# EAGLE library part 632712000012 (library InputOutputIO (rev18b))
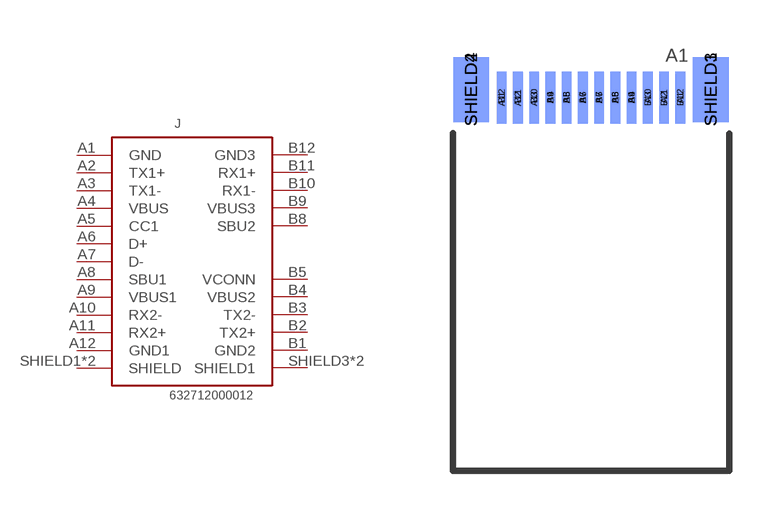
[diagram p187: symbol with the pads of 632712000012; footprint 632712000012]

Designator prefix J

## 632712000012  [632712000012]
A1  GND
A2  TX1+
A3  TX1-
A4  VBUS
A5  CC1
A6  D+
A7  D-
A8  SBU1
A9  VBUS1
A10  RX2-
A11  RX2+
A12  GND1
B1  GND2
B2  TX2+
B3  TX2-
B4  VBUS2
B5  VCONN
B8  SBU2
B9  VBUS3
B10  RX1-
B11  RX1+
B12  GND3
SHIELD1  SHIELD
SHIELD2  SHIELD
SHIELD3  SHIELD1
SHIELD4  SHIELD1

## Footprint 632712000012 (pad centres in mm)
smd 0.3 x 1.6: A1 2.75,0; A2 2.25,0; A3 1.75,0; A4 1.25,0; A5 0.75,0; A6 0.25,0; A7 -0.25,0; A8 -0.75,0; A9 -1.25,0; A10 -1.75,0; A11 -2.25,0; A12 -2.75,0
smd 0.3 x 1.6 bottom: B1 -2.75,0; B2 -2.25,0; B3 -1.75,0; B4 -1.25,0; B5 -0.75,0; B6 -0.25,0; B7 0.25,0; B8 0.75,0; B9 1.25,0; B10 1.75,0; B11 2.25,0; B12 2.75,0
smd 1.1 x 2: SHIELD1 3.69,0.24; SHIELD2 -3.69,0.24
smd 1.1 x 2 bottom: SHIELD3 3.69,0.24; SHIELD4 -3.69,0.24